# Altium footprint library Diodes.PcbLib: 37 footprints (part 2 of 3)
Each footprint in its own frame and in the unit in brackets; x right, y up, seen from the top. Pads: shape width x height; smd on the part's side, far side on the other; paste and mask are expansions set on the pad; w line width, h text height; cw(c..) or ccw(c..) is an arc to the next point about the centre after c.
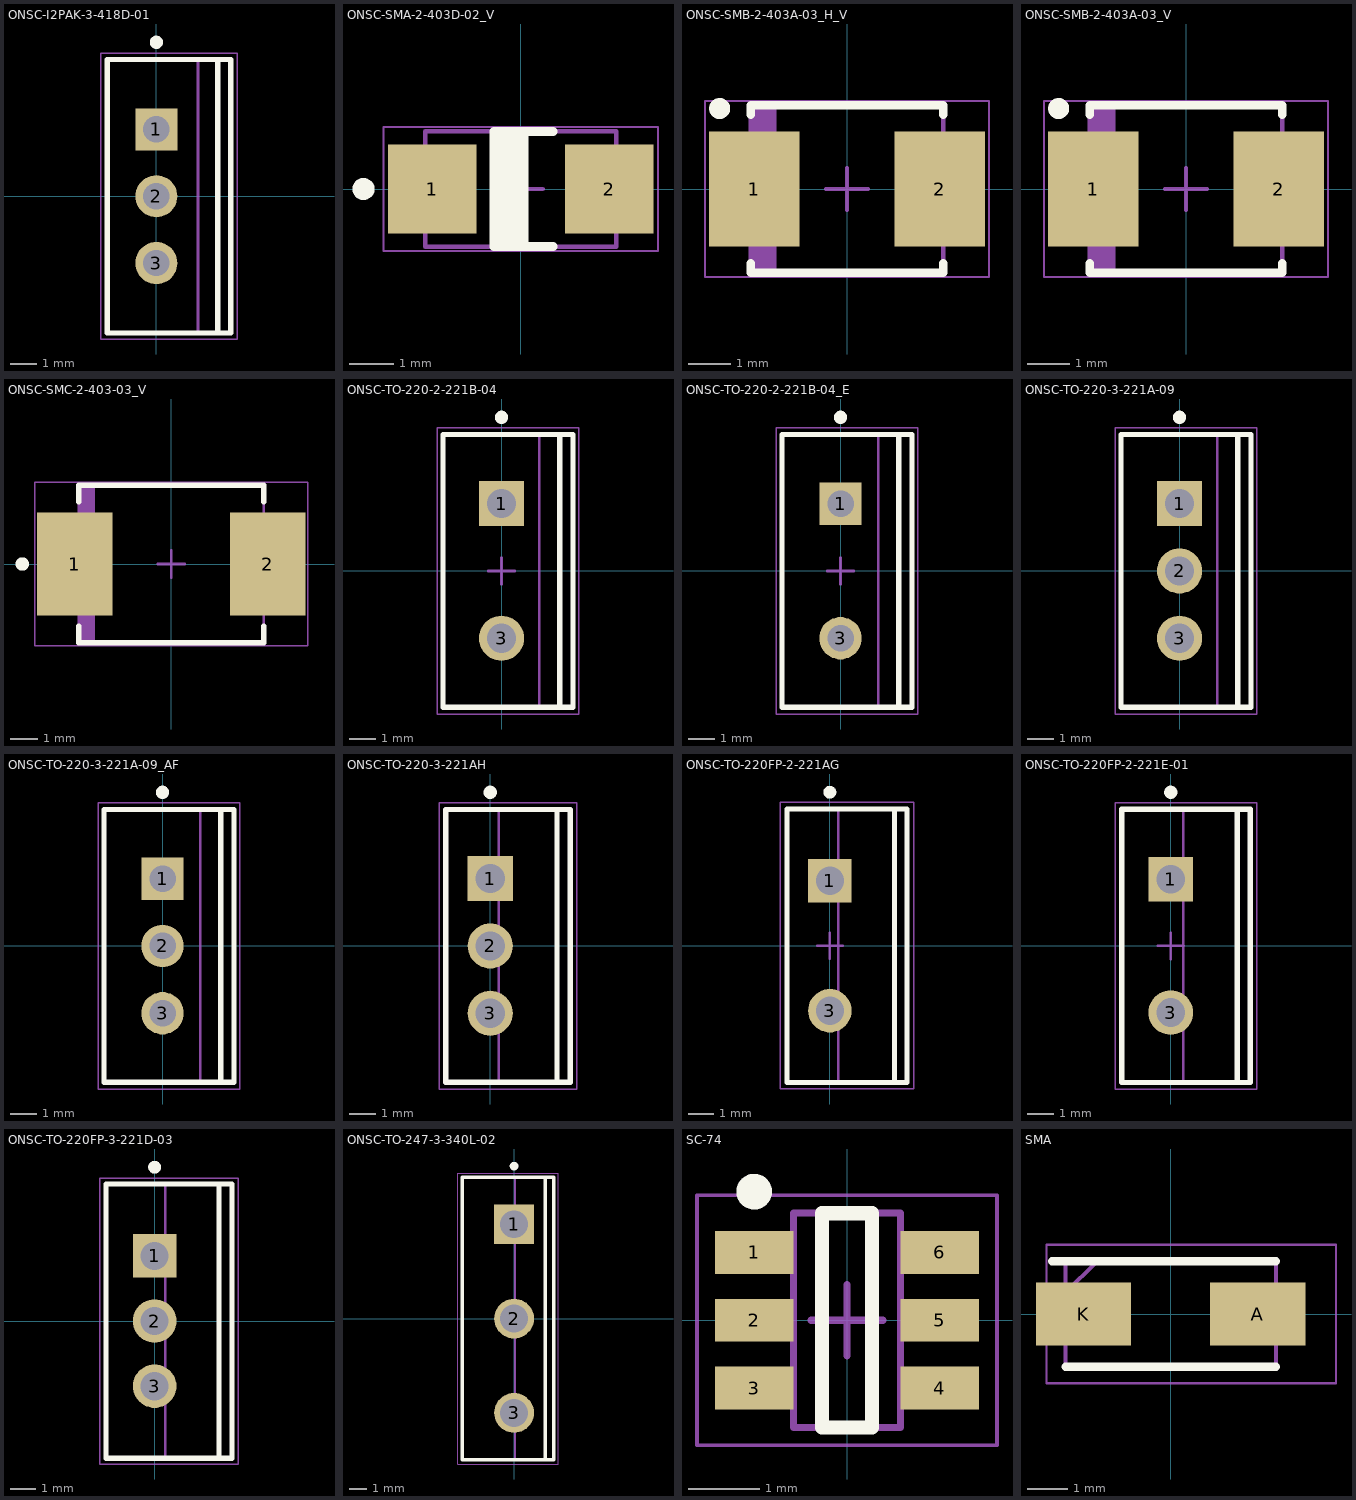
[diagram p1: the footprints below, top view; thin cyan lines are the x and y axes]

## ONSC-I2PAK-3-418D-01 [mm] "FM, 3-Leads, Body 10.35x4.7mm, Pitch 2.54mm"
height 14.3
pads (3):
  rect 1.6x1.6 hole 1: 1(0,2.54)
  round 1.6 hole 1: 2(0,0) 3(0,-2.54)
Top Overlay:
  circle w0.25: c0,5.85 r0.125
  lines w0.2: 2.33,-5.2 2.33,5.2 ; -1.87,-5.2 -1.87,5.2 2.83,5.2 2.83,-5.2 -1.87,-5.2
Mechanical 13:
  lines w0.1: 1.58,-5.175 1.58,5.175 ; -1.87,-5.175 2.83,-5.175 2.83,5.175 -1.87,5.175 -1.87,-5.175
Mechanical 15:
  lines w0.05: -2.12,-5.425 3.08,-5.425 3.08,5.425 -2.12,5.425 -2.12,-5.425
  lines w0.1: -0.5,0 0.5,0 ; 0,-0.5 0,0.5
3D body: height 14.3, standoff 12.85, extent 1.58,-5 2.83,5
3D body: height 12.85, standoff 3.1, extent -1.87,-5.175 2.83,5.175
3D body: height 0, standoff -1.6, extent -0.245,-2.93 0.245,-2.15
3D body: height 3.1, standoff 0, extent -0.245,-3.09 0.245,-1.99
3D body: height 0, standoff -1.6, extent -0.245,-0.39 0.245,0.39
3D body: height 3.1, standoff 0, extent -0.245,-0.55 0.245,0.55
3D body: height 0, standoff -1.6, extent -0.245,2.15 0.245,2.93
3D body: height 3.1, standoff 0, extent -0.245,1.99 0.245,3.09

## ONSC-SMA-2-403D-02_V [mm] "Molded, 2-Leads, Body 4.57x2.92mm"
height 2.2
pads (2):
  rect 2x2 smd: 1(-2,0) 2(2,0)
Top Overlay:
  circle w0.25: c-3.55,0 r0.125
  rectangle: -0.6,-1.3 0.178,1.3
  lines w0.2: 0.735,-1.3 -0.6,-1.3 -0.6,1.3 0.735,1.3
Mechanical 13:
  lines w0.1: -2.16,-1.3 -2.16,1.3 2.16,1.3 2.16,-1.3 -2.16,-1.3
Mechanical 15:
  lines w0.05: -3.1,-1.4 3.1,-1.4 3.1,1.4 -3.1,1.4 -3.1,-1.4
  lines w0.1: -0.5,0 0.5,0 ; 0,-0.5 0,0.5
3D body: height 2.2, standoff 0.05, extent -2.16,-1.3 2.16,1.3

## ONSC-SMB-2-403A-03_H_V [mm] "Molded, 2-Leads, Body 4.6x3.95mm"
height 2.42
pads (2):
  rect 2.159x2.743 smd: 1(-2.21,0) 2(2.21,0)
Top Overlay:
  circle w0.25: c-3.04,1.921 r0.125
  lines w0.2: -2.3,-1.772 -2.3,-2 2.3,-2 2.3,-1.772 ; -2.3,1.772 -2.3,2 2.3,2 2.3,1.772
Mechanical 13:
  rectangle: -2.3,-1.975 -1.681,1.975
  lines w0.1: -2.3,-1.975 -2.3,1.975 2.3,1.975 2.3,-1.975 -2.3,-1.975
Mechanical 15:
  lines w0.05: -3.39,-2.1 -3.39,2.1 3.39,2.1 3.39,-2.1 -3.39,-2.1
  lines w0.1: -0.5,0 0.5,0 ; 0,-0.5 0,0.5
3D body: height 2.42, standoff 0, extent -2.3,-1.975 2.3,1.975

## ONSC-SMB-2-403A-03_V [mm] "Molded, 2-Leads, Body 4.6x3.95mm"
height 2.47
pads (2):
  rect 2.159x2.743 smd: 1(-2.21,0) 2(2.21,0)
Top Overlay:
  circle w0.25: c-3.04,1.921 r0.125
  lines w0.2: -2.3,-1.772 -2.3,-2 2.3,-2 2.3,-1.772 ; -2.3,1.772 -2.3,2 2.3,2 2.3,1.772
Mechanical 13:
  rectangle: -2.3,-1.975 -1.681,1.975
  lines w0.1: -2.3,-1.975 -2.3,1.975 2.3,1.975 2.3,-1.975 -2.3,-1.975
Mechanical 15:
  lines w0.05: -3.39,-2.1 -3.39,2.1 3.39,2.1 3.39,-2.1 -3.39,-2.1
  lines w0.1: -0.5,0 0.5,0 ; 0,-0.5 0,0.5
3D body: height 2.47, standoff 0, extent -2.3,-1.975 2.3,1.975

## ONSC-SMC-2-403-03_V [mil] "Molded, 2-Leads, Body 6.86x5.84mm"
height 99.02
pads (2):
  rect 110x150 smd: 1(-140.49,0) 2(140.49,0)
Top Overlay:
  circle w9.84: c-217.15,0 r4.92
  lines w7.87: -135.04,-90.75 -135.04,-114.96 135.04,-114.96 135.04,-90.75 ; -135.04,90.75 -135.04,114.96 135.04,114.96 135.04,90.75
Mechanical 13:
  rectangle: -135.45,-114.96 -111.25,114.96
  lines w3.94: -135.04,-114.96 -135.04,114.96 135.04,114.96 135.04,-114.96 -135.04,-114.96
Mechanical 15:
  lines w1.97: -199.43,-118.9 -199.43,118.9 199.43,118.9 199.43,-118.9 -199.43,-118.9
  lines w3.94: -19.68,0 19.69,0 ; 0,-19.68 0,19.68
3D body: height 99.02, standoff 1.97, extent -135.04,-114.96 135.04,114.96

## ONSC-TO-220-2-221B-04 [mm] "FM, 2-Leads, Body 10.3x4.85mm, Pitch 5.08mm"
height 19.05
pads (2):
  rect 1.7x1.7 hole 1.1: 1(0,2.54)
  round 1.7 hole 1.1: 3(0,-2.54)
Top Overlay:
  circle w0.25: c0,5.8 r0.125
  lines w0.2: 2.195,-5.15 2.195,5.15 ; -2.205,-5.15 2.695,-5.15 2.695,5.15 -2.205,5.15 -2.205,-5.15
Mechanical 13:
  lines w0.1: 1.42,-5.15 1.42,5.15 ; -2.18,-5.15 -2.18,5.15 2.67,5.15 2.67,-5.15 -2.18,-5.15
Mechanical 15:
  lines w0.05: -2.43,-5.4 -2.43,5.4 2.92,5.4 2.92,-5.4 -2.43,-5.4
  lines w0.1: -0.5,0 0.5,0 ; 0,-0.5 0,0.5
3D body: height 2.79, standoff 0, extent -0.25,1.875 0.25,3.205
3D body: height 0, standoff -1.6, extent -0.25,2.13 0.25,2.95
3D body: height 2.79, standoff 0, extent -0.25,-3.205 0.25,-1.875
3D body: height 0, standoff -1.6, extent -0.25,-2.95 0.25,-2.13
3D body: height 12.8, standoff 2.79, extent -2.18,-5.15 2.67,5.15
3D body: height 14.33, standoff 12.8, extent 1.42,-4.975 2.67,4.975
3D body: height 14.37, standoff 14.33, extent 1.42,0.376 2.67,4.975
3D body: height 14.37, standoff 14.33, extent 1.42,-4.975 2.67,-0.376
3D body: height 18.18, standoff 18.14, extent 1.42,0.376 2.67,4.975
3D body: height 18.18, standoff 18.14, extent 1.42,-4.975 2.67,-0.376
3D body: height 14.48, standoff 14.36, extent 1.42,0.737 2.67,4.975
3D body: height 14.48, standoff 14.36, extent 1.42,-4.975 2.67,-0.737
3D body: height 18.14, standoff 18.03, extent 1.42,0.737 2.67,4.975
3D body: height 18.14, standoff 18.03, extent 1.42,-4.975 2.67,-0.737
3D body: height 14.65, standoff 14.47, extent 1.42,1.069 2.67,4.975
3D body: height 14.65, standoff 14.47, extent 1.42,-4.975 2.67,-1.069
3D body: height 18.03, standoff 17.85, extent 1.42,1.069 2.67,4.975
3D body: height 18.03, standoff 17.85, extent 1.42,-4.975 2.67,-1.069
3D body: height 14.89, standoff 14.65, extent 1.42,1.361 2.67,4.975
3D body: height 14.89, standoff 14.65, extent 1.42,-4.975 2.67,-1.361
3D body: height 17.86, standoff 17.61, extent 1.42,1.361 2.67,4.975
3D body: height 17.86, standoff 17.61, extent 1.42,-4.975 2.67,-1.361
3D body: height 15.19, standoff 14.89, extent 1.42,1.601 2.67,4.975
3D body: height 15.19, standoff 14.89, extent 1.42,-4.975 2.67,-1.601
3D body: height 17.62, standoff 17.32, extent 1.42,1.601 2.67,4.975
3D body: height 17.62, standoff 17.32, extent 1.42,-4.975 2.67,-1.601
3D body: height 15.52, standoff 15.18, extent 1.42,1.778 2.67,4.975
3D body: height 15.52, standoff 15.18, extent 1.42,-4.975 2.67,-1.778
3D body: height 17.32, standoff 16.99, extent 1.42,1.778 2.67,4.975
3D body: height 17.32, standoff 16.99, extent 1.42,-4.975 2.67,-1.778
3D body: height 15.88, standoff 15.51, extent 1.42,1.888 2.67,4.975
3D body: height 15.88, standoff 15.51, extent 1.42,-4.975 2.67,-1.888
3D body: height 16.99, standoff 16.63, extent 1.42,1.888 2.67,4.975
3D body: height 16.99, standoff 16.63, extent 1.42,-4.975 2.67,-1.888
3D body: height 16.25, standoff 15.87, extent 1.42,1.925 2.67,4.975
3D body: height 16.25, standoff 15.87, extent 1.42,-4.975 2.67,-1.925
3D body: height 16.63, standoff 16.25, extent 1.42,1.925 2.67,4.975
3D body: height 16.63, standoff 16.25, extent 1.42,-4.975 2.67,-1.925
3D body: height 19.05, standoff 18.18, extent 1.42,-4.975 2.67,4.975

## ONSC-TO-220-2-221B-04_E [mm] "FM, 2-Leads, Body 10.3x4.85mm, Pitch 5.08mm"
height 19.05
pads (2):
  rect 1.6x1.6 hole 1: 1(0,2.54)
  round 1.6 hole 1: 3(0,-2.54)
Top Overlay:
  circle w0.25: c0,5.8 r0.125
  lines w0.2: 2.195,-5.15 2.195,5.15 ; -2.205,-5.15 -2.205,5.15 2.695,5.15 2.695,-5.15 -2.205,-5.15
Mechanical 13:
  lines w0.1: 1.42,-5.15 1.42,5.15 ; -2.18,-5.15 2.67,-5.15 2.67,5.15 -2.18,5.15 -2.18,-5.15
Mechanical 15:
  lines w0.05: -2.43,-5.4 2.92,-5.4 2.92,5.4 -2.43,5.4 -2.43,-5.4
  lines w0.1: -0.5,0 0.5,0 ; 0,-0.5 0,0.5
3D body: height 19.05, standoff 18.18, extent 1.42,-4.975 2.67,4.975
3D body: height 16.63, standoff 16.25, extent 1.42,-4.975 2.67,-1.925
3D body: height 16.63, standoff 16.25, extent 1.42,1.925 2.67,4.975
3D body: height 16.25, standoff 15.87, extent 1.42,-4.975 2.67,-1.925
3D body: height 16.25, standoff 15.87, extent 1.42,1.925 2.67,4.975
3D body: height 16.99, standoff 16.63, extent 1.42,-4.975 2.67,-1.888
3D body: height 16.99, standoff 16.63, extent 1.42,1.888 2.67,4.975
3D body: height 15.88, standoff 15.51, extent 1.42,-4.975 2.67,-1.888
3D body: height 15.88, standoff 15.51, extent 1.42,1.888 2.67,4.975
3D body: height 17.32, standoff 16.99, extent 1.42,-4.975 2.67,-1.778
3D body: height 17.32, standoff 16.99, extent 1.42,1.778 2.67,4.975
3D body: height 15.52, standoff 15.18, extent 1.42,-4.975 2.67,-1.778
3D body: height 15.52, standoff 15.18, extent 1.42,1.778 2.67,4.975
3D body: height 17.62, standoff 17.32, extent 1.42,-4.975 2.67,-1.601
3D body: height 17.62, standoff 17.32, extent 1.42,1.601 2.67,4.975
3D body: height 15.19, standoff 14.89, extent 1.42,-4.975 2.67,-1.601
3D body: height 15.19, standoff 14.89, extent 1.42,1.601 2.67,4.975
3D body: height 17.86, standoff 17.61, extent 1.42,-4.975 2.67,-1.361
3D body: height 17.86, standoff 17.61, extent 1.42,1.361 2.67,4.975
3D body: height 14.89, standoff 14.65, extent 1.42,-4.975 2.67,-1.361
3D body: height 14.89, standoff 14.65, extent 1.42,1.361 2.67,4.975
3D body: height 18.03, standoff 17.85, extent 1.42,-4.975 2.67,-1.069
3D body: height 18.03, standoff 17.85, extent 1.42,1.069 2.67,4.975
3D body: height 14.65, standoff 14.47, extent 1.42,-4.975 2.67,-1.069
3D body: height 14.65, standoff 14.47, extent 1.42,1.069 2.67,4.975
3D body: height 18.14, standoff 18.03, extent 1.42,-4.975 2.67,-0.737
3D body: height 18.14, standoff 18.03, extent 1.42,0.737 2.67,4.975
3D body: height 14.48, standoff 14.36, extent 1.42,-4.975 2.67,-0.737
3D body: height 14.48, standoff 14.36, extent 1.42,0.737 2.67,4.975
3D body: height 18.18, standoff 18.14, extent 1.42,-4.975 2.67,-0.376
3D body: height 18.18, standoff 18.14, extent 1.42,0.376 2.67,4.975
3D body: height 14.37, standoff 14.33, extent 1.42,-4.975 2.67,-0.376
3D body: height 14.37, standoff 14.33, extent 1.42,0.376 2.67,4.975
3D body: height 14.33, standoff 12.8, extent 1.42,-4.975 2.67,4.975
3D body: height 12.8, standoff 2.79, extent -2.18,-5.15 2.67,5.15
3D body: height 0, standoff -1.6, extent -0.25,-2.925 0.25,-2.155
3D body: height 2.79, standoff 0, extent -0.25,-3.205 0.25,-1.875
3D body: height 0, standoff -1.6, extent -0.25,2.155 0.25,2.925
3D body: height 2.79, standoff 0, extent -0.25,1.875 0.25,3.205

## ONSC-TO-220-3-221A-09 [mm] "FM, 3-Leads, Body 10.3x4.85mm, Pitch 2.54mm"
height 19.85
pads (3):
  rect 1.7x1.7 hole 1.1: 1(0,2.54)
  round 1.7 hole 1.1: 2(0,0) 3(0,-2.54)
Top Overlay:
  circle w0.25: c0,5.8 r0.125
  lines w0.2: 2.195,-5.15 2.195,5.15 ; -2.205,-5.15 2.695,-5.15 2.695,5.15 -2.205,5.15 -2.205,-5.15
Mechanical 13:
  lines w0.1: 1.42,-5.15 1.42,5.15 ; -2.18,-5.15 -2.18,5.15 2.67,5.15 2.67,-5.15 -2.18,-5.15
Mechanical 15:
  lines w0.05: -2.43,-5.4 -2.43,5.4 2.92,5.4 2.92,-5.4 -2.43,-5.4
  lines w0.1: -0.5,0 0.5,0 ; 0,-0.5 0,0.5
3D body: height 2.8, standoff 0, extent -0.25,1.87 0.25,3.21
3D body: height 0, standoff -1.6, extent -0.25,2.15 0.25,2.93
3D body: height 2.8, standoff 0, extent -0.25,-0.67 0.25,0.67
3D body: height 0, standoff -1.6, extent -0.25,-0.39 0.25,0.39
3D body: height 2.8, standoff 0, extent -0.25,-3.21 0.25,-1.87
3D body: height 0, standoff -1.6, extent -0.25,-2.93 0.25,-2.15
3D body: height 13.65, standoff 2.8, extent -2.18,-5.15 2.67,5.15
3D body: height 15.13, standoff 13.65, extent 1.42,-4.975 2.67,4.975
3D body: height 15.17, standoff 15.13, extent 1.42,0.376 2.67,4.975
3D body: height 15.17, standoff 15.13, extent 1.42,-4.975 2.67,-0.376
3D body: height 18.98, standoff 18.94, extent 1.42,0.376 2.67,4.975
3D body: height 18.98, standoff 18.94, extent 1.42,-4.975 2.67,-0.376
3D body: height 15.28, standoff 15.16, extent 1.42,0.737 2.67,4.975
3D body: height 15.28, standoff 15.16, extent 1.42,-4.975 2.67,-0.737
3D body: height 18.94, standoff 18.83, extent 1.42,0.737 2.67,4.975
3D body: height 18.94, standoff 18.83, extent 1.42,-4.975 2.67,-0.737
3D body: height 15.45, standoff 15.27, extent 1.42,1.069 2.67,4.975
3D body: height 15.45, standoff 15.27, extent 1.42,-4.975 2.67,-1.069
3D body: height 18.83, standoff 18.65, extent 1.42,1.069 2.67,4.975
3D body: height 18.83, standoff 18.65, extent 1.42,-4.975 2.67,-1.069
3D body: height 15.69, standoff 15.45, extent 1.42,1.361 2.67,4.975
3D body: height 15.69, standoff 15.45, extent 1.42,-4.975 2.67,-1.361
3D body: height 18.66, standoff 18.41, extent 1.42,1.361 2.67,4.975
3D body: height 18.66, standoff 18.41, extent 1.42,-4.975 2.67,-1.361
3D body: height 15.99, standoff 15.69, extent 1.42,1.601 2.67,4.975
3D body: height 15.99, standoff 15.69, extent 1.42,-4.975 2.67,-1.601
3D body: height 18.42, standoff 18.12, extent 1.42,1.601 2.67,4.975
3D body: height 18.42, standoff 18.12, extent 1.42,-4.975 2.67,-1.601
3D body: height 16.32, standoff 15.98, extent 1.42,1.778 2.67,4.975
3D body: height 16.32, standoff 15.98, extent 1.42,-4.975 2.67,-1.778
3D body: height 18.12, standoff 17.79, extent 1.42,1.778 2.67,4.975
3D body: height 18.12, standoff 17.79, extent 1.42,-4.975 2.67,-1.778
3D body: height 16.68, standoff 16.31, extent 1.42,1.888 2.67,4.975
3D body: height 16.68, standoff 16.31, extent 1.42,-4.975 2.67,-1.888
3D body: height 17.79, standoff 17.43, extent 1.42,1.888 2.67,4.975
3D body: height 17.79, standoff 17.43, extent 1.42,-4.975 2.67,-1.888
3D body: height 17.05, standoff 16.67, extent 1.42,1.925 2.67,4.975
3D body: height 17.05, standoff 16.67, extent 1.42,-4.975 2.67,-1.925
3D body: height 17.43, standoff 17.05, extent 1.42,1.925 2.67,4.975
3D body: height 17.43, standoff 17.05, extent 1.42,-4.975 2.67,-1.925
3D body: height 19.85, standoff 18.98, extent 1.42,-4.975 2.67,4.975

## ONSC-TO-220-3-221A-09_AF [mm] "FM, 3-Leads, Body 10.3x4.85mm, Pitch 2.54mm"
height 19.68
pads (3):
  rect 1.6x1.6 hole 1: 1(0,2.54)
  round 1.6 hole 1: 2(0,0) 3(0,-2.54)
Top Overlay:
  circle w0.25: c0,5.8 r0.125
  lines w0.2: 2.195,-5.15 2.195,5.15 ; -2.205,-5.15 2.695,-5.15 2.695,5.15 -2.205,5.15 -2.205,-5.15
Mechanical 13:
  lines w0.1: 1.42,-5.15 1.42,5.15 ; -2.18,-5.15 -2.18,5.15 2.67,5.15 2.67,-5.15 -2.18,-5.15
Mechanical 15:
  lines w0.05: -2.43,-5.4 -2.43,5.4 2.92,5.4 2.92,-5.4 -2.43,-5.4
  lines w0.1: -0.5,0 0.5,0 ; 0,-0.5 0,0.5
3D body: height 2.8, standoff 0, extent -0.25,1.87 0.25,3.21
3D body: height 0, standoff -1.6, extent -0.25,2.16 0.25,2.92
3D body: height 2.8, standoff 0, extent -0.25,-0.67 0.25,0.67
3D body: height 0, standoff -1.6, extent -0.25,-0.38 0.25,0.38
3D body: height 2.8, standoff 0, extent -0.25,-3.21 0.25,-1.87
3D body: height 0, standoff -1.6, extent -0.25,-2.92 0.25,-2.16
3D body: height 13.48, standoff 2.8, extent -2.18,-5.15 2.67,5.15
3D body: height 14.96, standoff 13.48, extent 1.42,-4.975 2.67,4.975
3D body: height 15, standoff 14.96, extent 1.42,0.376 2.67,4.975
3D body: height 15, standoff 14.96, extent 1.42,-4.975 2.67,-0.376
3D body: height 18.81, standoff 18.77, extent 1.42,0.376 2.67,4.975
3D body: height 18.81, standoff 18.77, extent 1.42,-4.975 2.67,-0.376
3D body: height 15.11, standoff 14.99, extent 1.42,0.737 2.67,4.975
3D body: height 15.11, standoff 14.99, extent 1.42,-4.975 2.67,-0.737
3D body: height 18.77, standoff 18.66, extent 1.42,0.737 2.67,4.975
3D body: height 18.77, standoff 18.66, extent 1.42,-4.975 2.67,-0.737
3D body: height 15.28, standoff 15.1, extent 1.42,1.069 2.67,4.975
3D body: height 15.28, standoff 15.1, extent 1.42,-4.975 2.67,-1.069
3D body: height 18.66, standoff 18.48, extent 1.42,1.069 2.67,4.975
3D body: height 18.66, standoff 18.48, extent 1.42,-4.975 2.67,-1.069
3D body: height 15.52, standoff 15.28, extent 1.42,1.361 2.67,4.975
3D body: height 15.52, standoff 15.28, extent 1.42,-4.975 2.67,-1.361
3D body: height 18.49, standoff 18.24, extent 1.42,1.361 2.67,4.975
3D body: height 18.49, standoff 18.24, extent 1.42,-4.975 2.67,-1.361
3D body: height 15.82, standoff 15.52, extent 1.42,1.601 2.67,4.975
3D body: height 15.82, standoff 15.52, extent 1.42,-4.975 2.67,-1.601
3D body: height 18.25, standoff 17.95, extent 1.42,1.601 2.67,4.975
3D body: height 18.25, standoff 17.95, extent 1.42,-4.975 2.67,-1.601
3D body: height 16.15, standoff 15.81, extent 1.42,1.778 2.67,4.975
3D body: height 16.15, standoff 15.81, extent 1.42,-4.975 2.67,-1.778
3D body: height 17.95, standoff 17.62, extent 1.42,1.778 2.67,4.975
3D body: height 17.95, standoff 17.62, extent 1.42,-4.975 2.67,-1.778
3D body: height 16.51, standoff 16.14, extent 1.42,1.888 2.67,4.975
3D body: height 16.51, standoff 16.14, extent 1.42,-4.975 2.67,-1.888
3D body: height 17.62, standoff 17.26, extent 1.42,1.888 2.67,4.975
3D body: height 17.62, standoff 17.26, extent 1.42,-4.975 2.67,-1.888
3D body: height 16.88, standoff 16.5, extent 1.42,1.925 2.67,4.975
3D body: height 16.88, standoff 16.5, extent 1.42,-4.975 2.67,-1.925
3D body: height 17.26, standoff 16.88, extent 1.42,1.925 2.67,4.975
3D body: height 17.26, standoff 16.88, extent 1.42,-4.975 2.67,-1.925
3D body: height 19.68, standoff 18.81, extent 1.42,-4.975 2.67,4.975

## ONSC-TO-220-3-221AH [mm] "FM, 3-Leads, Body 10.3x4.7mm, Pitch 2.54mm"
height 17.4
pads (3):
  rect 1.7x1.7 hole 1.1: 1(0,2.54)
  round 1.7 hole 1.1: 2(0,0) 3(0,-2.54)
Top Overlay:
  circle w0.25: c0,5.8 r0.125
  lines w0.2: 2.52,-5.15 2.52,5.15 ; -1.68,-5.15 3.02,-5.15 3.02,5.15 -1.68,5.15 -1.68,-5.15
Mechanical 13:
  lines w0.1: 0.32,-5.15 0.32,5.15 ; -1.68,-5.15 -1.68,5.15 3.02,5.15 3.02,-5.15 -1.68,-5.15
Mechanical 15:
  lines w0.05: -1.93,-5.4 -1.93,5.4 3.27,5.4 3.27,-5.4 -1.93,-5.4
  lines w0.1: -0.5,0 0.5,0 ; 0,-0.5 0,0.5
3D body: height 2.1, standoff 0, extent -0.32,1.915 0.32,3.165
3D body: height 0, standoff -1.6, extent -0.32,2.195 0.32,2.885
3D body: height 2.1, standoff 0, extent -0.32,-0.625 0.32,0.625
3D body: height 0, standoff -1.6, extent -0.32,-0.345 0.32,0.345
3D body: height 2.1, standoff 0, extent -0.32,-3.165 0.32,-1.915
3D body: height 0, standoff -1.6, extent -0.32,-2.885 0.32,-2.195
3D body: height 10.5, standoff 2.1, extent -1.68,-5.15 3.02,5.15
3D body: height 12.8, standoff 10.5, extent 0.32,-5 3.02,5
3D body: height 12.84, standoff 12.8, extent 0.32,0.312 3.02,5
3D body: height 12.84, standoff 12.8, extent 0.32,-5 3.02,-0.312
3D body: height 16, standoff 15.97, extent 0.32,0.312 3.02,5
3D body: height 16, standoff 15.97, extent 0.32,-5 3.02,-0.312
3D body: height 12.93, standoff 12.83, extent 0.32,0.612 3.02,5
3D body: height 12.93, standoff 12.83, extent 0.32,-5 3.02,-0.612
3D body: height 15.97, standoff 15.88, extent 0.32,0.612 3.02,5
3D body: height 15.97, standoff 15.88, extent 0.32,-5 3.02,-0.612
3D body: height 13.07, standoff 12.92, extent 0.32,0.889 3.02,5
3D body: height 13.07, standoff 12.92, extent 0.32,-5 3.02,-0.889
3D body: height 15.88, standoff 15.73, extent 0.32,0.889 3.02,5
3D body: height 15.88, standoff 15.73, extent 0.32,-5 3.02,-0.889
3D body: height 13.27, standoff 13.07, extent 0.32,1.131 3.02,5
3D body: height 13.27, standoff 13.07, extent 0.32,-5 3.02,-1.131
3D body: height 15.74, standoff 15.53, extent 0.32,1.131 3.02,5
3D body: height 15.74, standoff 15.53, extent 0.32,-5 3.02,-1.131
3D body: height 13.52, standoff 13.27, extent 0.32,1.33 3.02,5
3D body: height 13.52, standoff 13.27, extent 0.32,-5 3.02,-1.33
3D body: height 15.54, standoff 15.29, extent 0.32,1.33 3.02,5
3D body: height 15.54, standoff 15.29, extent 0.32,-5 3.02,-1.33
3D body: height 13.79, standoff 13.51, extent 0.32,1.478 3.02,5
3D body: height 13.79, standoff 13.51, extent 0.32,-5 3.02,-1.478
3D body: height 15.29, standoff 15.01, extent 0.32,1.478 3.02,5
3D body: height 15.29, standoff 15.01, extent 0.32,-5 3.02,-1.478
3D body: height 14.09, standoff 13.79, extent 0.32,1.569 3.02,5
3D body: height 14.09, standoff 13.79, extent 0.32,-5 3.02,-1.569
3D body: height 15.02, standoff 14.71, extent 0.32,1.569 3.02,5
3D body: height 15.02, standoff 14.71, extent 0.32,-5 3.02,-1.569
3D body: height 14.4, standoff 14.09, extent 0.32,1.6 3.02,5
3D body: height 14.4, standoff 14.09, extent 0.32,-5 3.02,-1.6
3D body: height 14.72, standoff 14.4, extent 0.32,1.6 3.02,5
3D body: height 14.72, standoff 14.4, extent 0.32,-5 3.02,-1.6
3D body: height 17.4, standoff 16, extent 0.32,-5 3.02,5

## ONSC-TO-220FP-2-221AG [mm] "FM, 2-Leads, Body 10.7x4.7mm, Pitch 5.08mm"
height 18.68
pads (2):
  rect 1.7x1.7 hole 1.1: 1(0,2.54)
  round 1.7 hole 1.1: 3(0,-2.54)
Top Overlay:
  circle w0.25: c0,6 r0.125
  lines w0.2: 2.52,-5.35 2.52,5.35 ; -1.68,-5.35 3.02,-5.35 3.02,5.35 -1.68,5.35 -1.68,-5.35
Mechanical 13:
  lines w0.1: 0.32,-5.35 0.32,5.35 ; -1.68,-5.35 -1.68,5.35 3.02,5.35 3.02,-5.35 -1.68,-5.35
Mechanical 15:
  lines w0.05: -1.93,-5.6 -1.93,5.6 3.27,5.6 3.27,-5.6 -1.93,-5.6
  lines w0.1: -0.5,0 0.5,0 ; 0,-0.5 0,0.5
3D body: height 2.8, standoff 0, extent -0.32,1.915 0.32,3.165
3D body: height 0, standoff -1.6, extent -0.32,2.195 0.32,2.885
3D body: height 2.8, standoff 0, extent -0.32,-3.165 0.32,-1.915
3D body: height 0, standoff -1.6, extent -0.32,-2.885 0.32,-2.195
3D body: height 12.43, standoff 2.8, extent -1.68,-5.35 3.02,5.35
3D body: height 14.08, standoff 12.43, extent 0.32,-5.075 3.02,5.075
3D body: height 14.12, standoff 14.08, extent 0.32,0.312 3.02,5.075
3D body: height 14.12, standoff 14.08, extent 0.32,-5.075 3.02,-0.312
3D body: height 17.28, standoff 17.25, extent 0.32,0.312 3.02,5.075
3D body: height 17.28, standoff 17.25, extent 0.32,-5.075 3.02,-0.312
3D body: height 14.21, standoff 14.11, extent 0.32,0.612 3.02,5.075
3D body: height 14.21, standoff 14.11, extent 0.32,-5.075 3.02,-0.612
3D body: height 17.25, standoff 17.16, extent 0.32,0.612 3.02,5.075
3D body: height 17.25, standoff 17.16, extent 0.32,-5.075 3.02,-0.612
3D body: height 14.35, standoff 14.2, extent 0.32,0.889 3.02,5.075
3D body: height 14.35, standoff 14.2, extent 0.32,-5.075 3.02,-0.889
3D body: height 17.16, standoff 17.01, extent 0.32,0.889 3.02,5.075
3D body: height 17.16, standoff 17.01, extent 0.32,-5.075 3.02,-0.889
3D body: height 14.55, standoff 14.35, extent 0.32,1.131 3.02,5.075
3D body: height 14.55, standoff 14.35, extent 0.32,-5.075 3.02,-1.131
3D body: height 17.02, standoff 16.81, extent 0.32,1.131 3.02,5.075
3D body: height 17.02, standoff 16.81, extent 0.32,-5.075 3.02,-1.131
3D body: height 14.8, standoff 14.55, extent 0.32,1.33 3.02,5.075
3D body: height 14.8, standoff 14.55, extent 0.32,-5.075 3.02,-1.33
3D body: height 16.82, standoff 16.57, extent 0.32,1.33 3.02,5.075
3D body: height 16.82, standoff 16.57, extent 0.32,-5.075 3.02,-1.33
3D body: height 15.07, standoff 14.79, extent 0.32,1.478 3.02,5.075
3D body: height 15.07, standoff 14.79, extent 0.32,-5.075 3.02,-1.478
3D body: height 16.57, standoff 16.29, extent 0.32,1.478 3.02,5.075
3D body: height 16.57, standoff 16.29, extent 0.32,-5.075 3.02,-1.478
3D body: height 15.37, standoff 15.07, extent 0.32,1.569 3.02,5.075
3D body: height 15.37, standoff 15.07, extent 0.32,-5.075 3.02,-1.569
3D body: height 16.3, standoff 15.99, extent 0.32,1.569 3.02,5.075
3D body: height 16.3, standoff 15.99, extent 0.32,-5.075 3.02,-1.569
3D body: height 15.68, standoff 15.37, extent 0.32,1.6 3.02,5.075
3D body: height 15.68, standoff 15.37, extent 0.32,-5.075 3.02,-1.6
3D body: height 16, standoff 15.68, extent 0.32,1.6 3.02,5.075
3D body: height 16, standoff 15.68, extent 0.32,-5.075 3.02,-1.6
3D body: height 18.68, standoff 17.28, extent 0.32,-5.075 3.02,5.075

## ONSC-TO-220FP-2-221E-01 [mm] "FM, 2-Leads, Body 10.4x4.9mm, Pitch 5.08mm"
height 19.45
pads (2):
  rect 1.7x1.7 hole 1.1: 1(0,2.54)
  round 1.7 hole 1.1: 3(0,-2.54)
Top Overlay:
  circle w0.25: c0,5.85 r0.125
  lines w0.2: 2.53,-5.2 2.53,5.2 ; -1.87,-5.2 3.03,-5.2 3.03,5.2 -1.87,5.2 -1.87,-5.2
Mechanical 13:
  lines w0.1: 0.48,-5.2 0.48,5.2 ; -1.87,-5.2 -1.87,5.2 3.03,5.2 3.03,-5.2 -1.87,-5.2
Mechanical 15:
  lines w0.05: -2.12,-5.45 -2.12,5.45 3.28,5.45 3.28,-5.45 -2.12,-5.45
  lines w0.1: -0.5,0 0.5,0 ; 0,-0.5 0,0.5
3D body: height 2.98, standoff 0, extent -0.275,1.875 0.275,3.205
3D body: height 0, standoff -1.6, extent -0.275,2.14 0.275,2.94
3D body: height 2.98, standoff 0, extent -0.275,-3.205 0.275,-1.875
3D body: height 0, standoff -1.6, extent -0.275,-2.94 0.275,-2.14
3D body: height 12.75, standoff 2.98, extent -1.87,-5.2 3.03,5.2
3D body: height 14.55, standoff 12.75, extent 0.48,-5.075 3.03,5.075
3D body: height 14.59, standoff 14.55, extent 0.48,0.312 3.03,5.075
3D body: height 14.59, standoff 14.55, extent 0.48,-5.075 3.03,-0.312
3D body: height 17.75, standoff 17.72, extent 0.48,0.312 3.03,5.075
3D body: height 17.75, standoff 17.72, extent 0.48,-5.075 3.03,-0.312
3D body: height 14.68, standoff 14.58, extent 0.48,0.612 3.03,5.075
3D body: height 14.68, standoff 14.58, extent 0.48,-5.075 3.03,-0.612
3D body: height 17.72, standoff 17.63, extent 0.48,0.612 3.03,5.075
3D body: height 17.72, standoff 17.63, extent 0.48,-5.075 3.03,-0.612
3D body: height 14.82, standoff 14.67, extent 0.48,0.889 3.03,5.075
3D body: height 14.82, standoff 14.67, extent 0.48,-5.075 3.03,-0.889
3D body: height 17.63, standoff 17.48, extent 0.48,0.889 3.03,5.075
3D body: height 17.63, standoff 17.48, extent 0.48,-5.075 3.03,-0.889
3D body: height 15.02, standoff 14.82, extent 0.48,1.131 3.03,5.075
3D body: height 15.02, standoff 14.82, extent 0.48,-5.075 3.03,-1.131
3D body: height 17.49, standoff 17.28, extent 0.48,1.131 3.03,5.075
3D body: height 17.49, standoff 17.28, extent 0.48,-5.075 3.03,-1.131
3D body: height 15.27, standoff 15.02, extent 0.48,1.33 3.03,5.075
3D body: height 15.27, standoff 15.02, extent 0.48,-5.075 3.03,-1.33
3D body: height 17.29, standoff 17.04, extent 0.48,1.33 3.03,5.075
3D body: height 17.29, standoff 17.04, extent 0.48,-5.075 3.03,-1.33
3D body: height 15.54, standoff 15.26, extent 0.48,1.478 3.03,5.075
3D body: height 15.54, standoff 15.26, extent 0.48,-5.075 3.03,-1.478
3D body: height 17.04, standoff 16.76, extent 0.48,1.478 3.03,5.075
3D body: height 17.04, standoff 16.76, extent 0.48,-5.075 3.03,-1.478
3D body: height 15.84, standoff 15.54, extent 0.48,1.569 3.03,5.075
3D body: height 15.84, standoff 15.54, extent 0.48,-5.075 3.03,-1.569
3D body: height 16.77, standoff 16.46, extent 0.48,1.569 3.03,5.075
3D body: height 16.77, standoff 16.46, extent 0.48,-5.075 3.03,-1.569
3D body: height 16.15, standoff 15.84, extent 0.48,1.6 3.03,5.075
3D body: height 16.15, standoff 15.84, extent 0.48,-5.075 3.03,-1.6
3D body: height 16.47, standoff 16.15, extent 0.48,1.6 3.03,5.075
3D body: height 16.47, standoff 16.15, extent 0.48,-5.075 3.03,-1.6
3D body: height 19.45, standoff 17.75, extent 0.48,-5.075 3.03,5.075

## ONSC-TO-220FP-3-221D-03 [mm] "FM, 3-Leads, Body 10.63x4.9mm, Pitch 2.54mm"
height 19.55
pads (3):
  rect 1.7x1.7 hole 1.1: 1(0,2.54)
  round 1.7 hole 1.1: 2(0,0) 3(0,-2.54)
Top Overlay:
  circle w0.25: c0,6 r0.125
  lines w0.2: 2.51,-5.35 2.51,5.35 ; -1.89,-5.35 -1.89,5.35 3.01,5.35 3.01,-5.35 -1.89,-5.35
Mechanical 13:
  lines w0.1: 0.41,-5.325 0.41,5.325 ; -1.89,-5.325 3.01,-5.325 3.01,5.325 -1.89,5.325 -1.89,-5.325
Mechanical 15:
  lines w0.05: -2.14,-5.575 3.26,-5.575 3.26,5.575 -2.14,5.575 -2.14,-5.575
  lines w0.1: -0.5,0 0.5,0 ; 0,-0.5 0,0.5
3D body: height 19.55, standoff 17.8, extent 0.41,-5.15 3.01,5.15
3D body: height 16.56, standoff 16.25, extent 0.41,-5.15 3.01,-1.55
3D body: height 16.56, standoff 16.25, extent 0.41,1.55 3.01,5.15
3D body: height 16.25, standoff 15.95, extent 0.41,-5.15 3.01,-1.55
3D body: height 16.25, standoff 15.95, extent 0.41,1.55 3.01,5.15
3D body: height 16.85, standoff 16.55, extent 0.41,-5.15 3.01,-1.52
3D body: height 16.85, standoff 16.55, extent 0.41,1.52 3.01,5.15
3D body: height 15.95, standoff 15.66, extent 0.41,-5.15 3.01,-1.52
3D body: height 15.95, standoff 15.66, extent 0.41,1.52 3.01,5.15
3D body: height 17.12, standoff 16.84, extent 0.41,-5.15 3.01,-1.432
3D body: height 17.12, standoff 16.84, extent 0.41,1.432 3.01,5.15
3D body: height 15.66, standoff 15.39, extent 0.41,-5.15 3.01,-1.432
3D body: height 15.66, standoff 15.39, extent 0.41,1.432 3.01,5.15
3D body: height 17.35, standoff 17.11, extent 0.41,-5.15 3.01,-1.289
3D body: height 17.35, standoff 17.11, extent 0.41,1.289 3.01,5.15
3D body: height 15.39, standoff 15.15, extent 0.41,-5.15 3.01,-1.289
3D body: height 15.39, standoff 15.15, extent 0.41,1.289 3.01,5.15
3D body: height 17.54, standoff 17.35, extent 0.41,-5.15 3.01,-1.096
3D body: height 17.54, standoff 17.35, extent 0.41,1.096 3.01,5.15
3D body: height 15.16, standoff 14.96, extent 0.41,-5.15 3.01,-1.096
3D body: height 15.16, standoff 14.96, extent 0.41,1.096 3.01,5.15
3D body: height 17.69, standoff 17.54, extent 0.41,-5.15 3.01,-0.861
3D body: height 17.69, standoff 17.54, extent 0.41,0.861 3.01,5.15
3D body: height 14.97, standoff 14.82, extent 0.41,-5.15 3.01,-0.861
3D body: height 14.97, standoff 14.82, extent 0.41,0.861 3.01,5.15
3D body: height 17.78, standoff 17.68, extent 0.41,-5.15 3.01,-0.593
3D body: height 17.78, standoff 17.68, extent 0.41,0.593 3.01,5.15
3D body: height 14.82, standoff 14.73, extent 0.41,-5.15 3.01,-0.593
3D body: height 14.82, standoff 14.73, extent 0.41,0.593 3.01,5.15
3D body: height 17.8, standoff 17.77, extent 0.41,-5.15 3.01,-0.302
3D body: height 17.8, standoff 17.77, extent 0.41,0.302 3.01,5.15
3D body: height 14.73, standoff 14.7, extent 0.41,-5.15 3.01,-0.302
3D body: height 14.73, standoff 14.7, extent 0.41,0.302 3.01,5.15
3D body: height 14.7, standoff 13.1, extent 0.41,-5.15 3.01,5.15
3D body: height 13.1, standoff 3, extent -1.89,-5.325 3.01,5.325
3D body: height 0, standoff -1.6, extent -0.27,-2.94 0.27,-2.14
3D body: height 3, standoff 0, extent -0.27,-3.215 0.27,-1.865
3D body: height 0, standoff -1.6, extent -0.27,-0.4 0.27,0.4
3D body: height 3, standoff 0, extent -0.27,-0.675 0.27,0.675
3D body: height 0, standoff -1.6, extent -0.27,2.14 0.27,2.94
3D body: height 3, standoff 0, extent -0.27,1.865 0.27,3.215

## ONSC-TO-247-3-340L-02 [mm] "FM, 3-Leads, Body 16.3x5.3mm, Pitch 5.45mm"
height 25.58
pads (3):
  rect 2.3x2.3 hole 1.6: 1(0,5.45)
  round 2.3 hole 1.6: 2(0,0) 3(0,-5.45)
Top Overlay:
  circle w0.25: c0,8.8 r0.125
  lines w0.2: 1.8,-8.15 1.8,8.15 ; -3,-8.15 -3,8.15 2.3,8.15 2.3,-8.15 -3,-8.15
Mechanical 13:
  lines w0.1: 0.05,-8.15 0.05,8.15 ; -3,-8.15 2.3,-8.15 2.3,8.15 -3,8.15 -3,-8.15
Mechanical 15:
  lines w0.05: -3.25,-8.4 2.55,-8.4 2.55,8.4 -3.25,8.4 -3.25,-8.4
  lines w0.1: -0.5,0 0.5,0 ; 0,-0.5 0,0.5
3D body: height 25.58, standoff 4.5, extent -3,-8.15 2.3,8.15
3D body: height 0, standoff -1.6, extent -0.3,-6.05 0.3,-4.85
3D body: height 4.5, standoff 0, extent -0.3,-6.95 0.3,-3.95
3D body: height 0, standoff -1.6, extent -0.3,4.85 0.3,6.05
3D body: height 4.5, standoff 0, extent -0.3,3.95 0.3,6.95
3D body: height 0, standoff -1.6, extent -0.3,-0.6 0.3,0.6
3D body: height 4.5, standoff 0, extent -0.3,-1.5 0.3,1.5

## SC-74 [mm] "SC-74"
height 1.1
pads (6):
  rect 1.1x0.6 smd: 1(-1.3,0.95) 2(-1.3,0) 3(-1.3,-0.95) 4(1.3,-0.95) 5(1.3,0) 6(1.3,0.95)
Top Overlay:
  circle w0.25: c-1.3,1.8 r0.125
  lines w0.2: -0.35,-1.5 0.35,-1.5 0.35,1.5 -0.35,1.5 -0.35,-1.5
Mechanical 13:
  lines w0.1: -0.75,-1.5 -0.75,1.5 0.75,1.5 0.75,-1.5 -0.75,-1.5
Mechanical 15:
  lines w0.05: -2.1,-1.75 -2.1,1.75 2.1,1.75 2.1,-1.75 -2.1,-1.75
  lines w0.1: -0.5,0 0.5,0 ; 0,-0.5 0,0.5
3D body "SC-74.step": height 1.1, standoff 0, extent -1.5,-1.5 1.5,1.5

## SMA [mm]
pads (2):
  rect 2.35x1.55 smd: A(2.15,0) K(-2.15,0)
Top Overlay:
  lines w0.2: -2.925,1.302 2.598,1.302 ; -2.598,-1.302 2.598,-1.302
Mechanical 15:
  lines w0.1: -2.598,0.528 -1.822,1.302 ; -2.598,-1.302 2.598,-1.302 2.598,1.302 -2.598,1.302 -2.598,-1.302
Mechanical 20:
  lines w0.05: -3.067,-1.71 4.083,-1.71 4.083,1.71 -3.067,1.71 -3.067,-1.71
3D body "S1M-13-F.stp": height 2.4, standoff 0, extent -2.661,-1.302 2.534,1.303